# Altium footprint library WE-MAPI.PcbLib: 16 footprints
Each footprint in its own frame and in the unit in brackets; x right, y up, seen from the top. Pads: shape width x height; smd on the part's side, far side on the other; paste and mask are expansions set on the pad; w line width, h text height; cw(c..) or ccw(c..) is an arc to the next point about the centre after c.
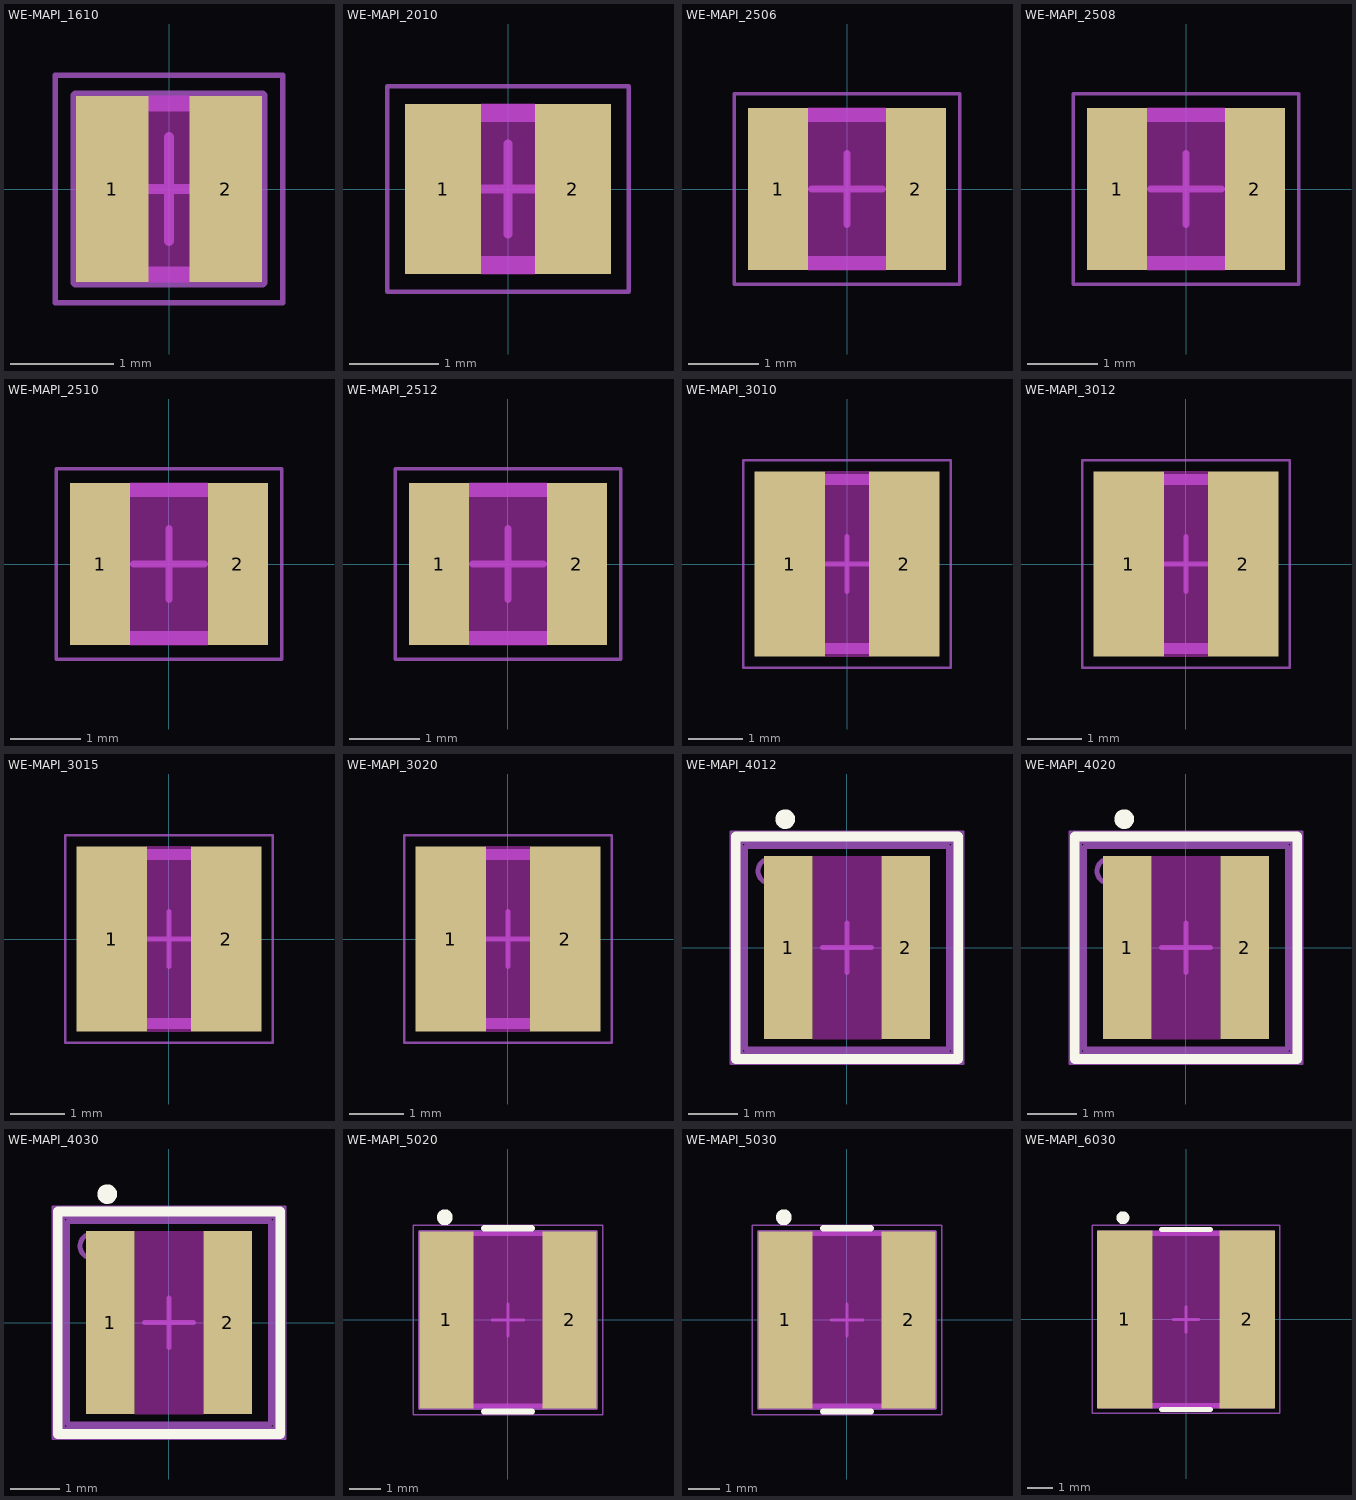
[diagram p0: the footprints below, top view; thin cyan lines are the x and y axes]

## WE-MAPI_1610 [mm] "SMT Shielded Power Inductor, body 1.60 x 1.60 mm"
height 1
pads (2):
  rect 0.7x1.8 smd: 1(-0.55,0) 2(0.55,0)
Top Layer keep-out:
  region: -0.2,0.9 0.2,0.9 0.2,-0.9 -0.2,-0.9
Top Assembly:
  lines w0.1: -0.9,-0.9 0.9,-0.9 0.9,0.9 -0.9,0.9 -0.9,-0.9
Top Designator:
  text ".Designator" at -3.647,-0.357 h1
Top 3D Body:
  lines w0.1: -0.8,-0.8 0.8,-0.8 0.8,0.8 -0.8,0.8 -0.8,-0.8
Top Courtyard:
  lines w0.05: -1.1,-1.1 -1.1,1.1 1.1,1.1 1.1,-1.1 -1.1,-1.1
Top Component Center:
  lines w0.1: -0.5,0 0.5,0 ; 0,-0.5 0,0.5
3D body "WE-IndMAPI_SSMC-16xx.stp": height 1.01, standoff 0.01, extent -0.8,-0.8 0.8,0.8

## WE-MAPI_2010 [mm] "SMT Shielded Power Inductor, body 2.00 x 1.60 mm"
height 1
pads (2):
  rect 0.85x1.9 smd: 1(-0.725,0) 2(0.725,0)
Top Layer keep-out:
  region: -0.3,0.95 0.3,0.95 0.3,-0.95 -0.3,-0.95
Top Assembly:
  lines w0.1: -1.1,-0.9 -1.1,0.9 1.1,0.9 1.1,-0.9 -1.1,-0.9
Top Designator:
  text ".Designator" at -3.647,-0.357 h1
Top 3D Body:
  lines w0.1: -1,-0.8 1,-0.8 1,0.8 -1,0.8 -1,-0.8
Top Courtyard:
  lines w0.05: -1.35,-1.15 1.35,-1.15 1.35,1.15 -1.35,1.15 -1.35,-1.15
Top Component Center:
  lines w0.1: -0.5,0 0.5,0 ; 0,-0.5 0,0.5
3D body "WE-IndMAPI_SSMC-20xx.stp": height 1.01, standoff 0.01, extent -1,-0.8 1,0.8

## WE-MAPI_2506 [mm] "SMT Shielded Power Inductor, body 2.50 x 2.00 mm"
height 0.6
pads (2):
  rect 0.85x2.3 smd: 1(-0.975,0) 2(0.975,0)
Top Layer keep-out:
  region: -0.55,1.15 0.55,1.15 0.55,-1.15 -0.55,-1.15
Top Assembly:
  lines w0.1: -1.35,-1.1 1.35,-1.1 1.35,1.1 -1.35,1.1 -1.35,-1.1
Top Designator:
  text ".Designator" at -3.647,-0.357 h1
Top 3D Body:
  lines w0.1: -1.25,-1 -1.25,1 1.25,1 1.25,-1 -1.25,-1
Top Courtyard:
  lines w0.05: -1.6,-1.35 -1.6,1.35 1.6,1.35 1.6,-1.35 -1.6,-1.35
Top Component Center:
  lines w0.1: -0.5,0 0.5,0 ; 0,-0.5 0,0.5
3D body "WE-IndMAPI_SSMC-25xx.stp": height 0.61, standoff 0.01, extent -1.25,-1 1.25,1

## WE-MAPI_2508 [mm] "SMT Shielded Power Inductor, body 2.50 x 2.00 mm"
height 0.8
pads (2):
  rect 0.85x2.3 smd: 1(-0.975,0) 2(0.975,0)
Top Layer keep-out:
  region: -0.55,1.15 0.55,1.15 0.55,-1.15 -0.55,-1.15
Top Assembly:
  lines w0.1: -1.35,-1.1 -1.35,1.1 1.35,1.1 1.35,-1.1 -1.35,-1.1
Top Designator:
  text ".Designator" at -3.647,-0.357 h1
Top 3D Body:
  lines w0.1: -1.25,-1 1.25,-1 1.25,1 -1.25,1 -1.25,-1
Top Courtyard:
  lines w0.05: -1.6,-1.35 1.6,-1.35 1.6,1.35 -1.6,1.35 -1.6,-1.35
Top Component Center:
  lines w0.1: -0.5,0 0.5,0 ; 0,-0.5 0,0.5
3D body "WE-IndMAPI_SSMC-25xx.stp": height 0.81, standoff 0.01, extent -1.25,-1 1.25,1

## WE-MAPI_2510 [mm] "SMT Shielded Power Inductor, body 2.50 x 2.00 mm"
height 1
pads (2):
  rect 0.85x2.3 smd: 1(-0.975,0) 2(0.975,0)
Top Layer keep-out:
  region: -0.55,1.15 0.55,1.15 0.55,-1.15 -0.55,-1.15
Top Assembly:
  lines w0.1: -1.35,-1.1 -1.35,1.1 1.35,1.1 1.35,-1.1 -1.35,-1.1
Top Designator:
  text ".Designator" at -3.647,-0.357 h1
Top 3D Body:
  lines w0.1: -1.25,-1 1.25,-1 1.25,1 -1.25,1 -1.25,-1
Top Courtyard:
  lines w0.05: -1.6,-1.35 1.6,-1.35 1.6,1.35 -1.6,1.35 -1.6,-1.35
Top Component Center:
  lines w0.1: -0.5,0 0.5,0 ; 0,-0.5 0,0.5
3D body "WE-IndMAPI_SSMC-25xx.stp": height 1.01, standoff 0.01, extent -1.25,-1 1.25,1

## WE-MAPI_2512 [mm] "SMT Shielded Power Inductor, body 2.50 x 2.00 mm"
height 1.2
pads (2):
  rect 0.85x2.3 smd: 1(-0.975,0) 2(0.975,0)
Top Layer keep-out:
  region: -0.55,1.15 0.55,1.15 0.55,-1.15 -0.55,-1.15
Top Assembly:
  lines w0.1: -1.35,-1.1 1.35,-1.1 1.35,1.1 -1.35,1.1 -1.35,-1.1
Top Designator:
  text ".Designator" at -3.647,-0.357 h1
Top 3D Body:
  lines w0.1: -1.25,-1 -1.25,1 1.25,1 1.25,-1 -1.25,-1
Top Courtyard:
  lines w0.05: -1.6,-1.35 -1.6,1.35 1.6,1.35 1.6,-1.35 -1.6,-1.35
Top Component Center:
  lines w0.1: -0.5,0 0.5,0 ; 0,-0.5 0,0.5
3D body "WE-IndMAPI_SSMC-25xx.stp": height 1.21, standoff 0.01, extent -1.25,-1 1.25,1

## WE-MAPI_3010 [mm] "SMT Shielded Power Inductor, body 3.00 x 3.00 mm"
height 1
pads (2):
  rect 1.3x3.4 smd: 1(-1.05,0) 2(1.05,0)
Top Layer keep-out:
  region: -0.4,1.7 0.4,1.7 0.4,-1.7 -0.4,-1.7
Top Assembly:
  lines w0.1: -1.6,-1.6 -1.6,1.6 1.6,1.6 1.6,-1.6 -1.6,-1.6
Top Designator:
  text ".Designator" at -3.647,-0.357 h1
Top 3D Body:
  lines w0.1: -1.5,-1.5 1.5,-1.5 1.5,1.5 -1.5,1.5 -1.5,-1.5
Top Courtyard:
  lines w0.05: -1.9,-1.9 1.9,-1.9 1.9,1.9 -1.9,1.9 -1.9,-1.9
Top Component Center:
  lines w0.1: -0.5,0 0.5,0 ; 0,-0.5 0,0.5
3D body "WE-IndMAPI_SSMC-30xx.stp": height 1.01, standoff 0.01, extent -1.5,-1.5 1.5,1.5

## WE-MAPI_3012 [mm] "SMT Shielded Power Inductor, body 3.00 x 3.00 mm"
height 1.2
pads (2):
  rect 1.3x3.4 smd: 1(-1.05,0) 2(1.05,0)
Top Layer keep-out:
  region: -0.4,1.7 0.4,1.7 0.4,-1.7 -0.4,-1.7
Top Assembly:
  lines w0.1: -1.6,-1.6 -1.6,1.6 1.6,1.6 1.6,-1.6 -1.6,-1.6
Top Designator:
  text ".Designator" at -3.647,-0.357 h1
Top 3D Body:
  lines w0.1: -1.5,-1.5 1.5,-1.5 1.5,1.5 -1.5,1.5 -1.5,-1.5
Top Courtyard:
  lines w0.05: -1.9,-1.9 1.9,-1.9 1.9,1.9 -1.9,1.9 -1.9,-1.9
Top Component Center:
  lines w0.1: -0.5,0 0.5,0 ; 0,-0.5 0,0.5
3D body "WE-IndMAPI_SSMC-30xx.stp": height 1.21, standoff 0.01, extent -1.5,-1.5 1.5,1.5

## WE-MAPI_3015 [mm] "SMT Shielded Power Inductor, body 3.00 x 3.00 mm"
height 1.5
pads (2):
  rect 1.3x3.4 smd: 1(-1.05,0) 2(1.05,0)
Top Layer keep-out:
  region: -0.4,1.7 0.4,1.7 0.4,-1.7 -0.4,-1.7
Top Assembly:
  lines w0.1: -1.6,-1.6 1.6,-1.6 1.6,1.6 -1.6,1.6 -1.6,-1.6
Top Designator:
  text ".Designator" at -3.647,-0.357 h1
Top 3D Body:
  lines w0.1: -1.5,-1.5 -1.5,1.5 1.5,1.5 1.5,-1.5 -1.5,-1.5
Top Courtyard:
  lines w0.05: -1.9,-1.9 -1.9,1.9 1.9,1.9 1.9,-1.9 -1.9,-1.9
Top Component Center:
  lines w0.1: -0.5,0 0.5,0 ; 0,-0.5 0,0.5
3D body "WE-IndMAPI_30xx.stp": height 1.51, standoff 0.01, extent -1.5,-1.5 1.5,1.5

## WE-MAPI_3020 [mm] "SMT Shielded Power Inductor, body 3.00 x 3.00 mm"
height 2
pads (2):
  rect 1.3x3.4 smd: 1(-1.05,0) 2(1.05,0)
Top Layer keep-out:
  region: -0.4,1.7 0.4,1.7 0.4,-1.7 -0.4,-1.7
Top Assembly:
  lines w0.1: -1.6,-1.6 1.6,-1.6 1.6,1.6 -1.6,1.6 -1.6,-1.6
Top Designator:
  text ".Designator" at -3.647,-0.357 h1
Top 3D Body:
  lines w0.1: -1.5,-1.5 -1.5,1.5 1.5,1.5 1.5,-1.5 -1.5,-1.5
Top Courtyard:
  lines w0.05: -1.9,-1.9 -1.9,1.9 1.9,1.9 1.9,-1.9 -1.9,-1.9
Top Component Center:
  lines w0.1: -0.5,0 0.5,0 ; 0,-0.5 0,0.5
3D body "WE-IndMAPI_SSMC-30xx.stp": height 2.01, standoff 0.01, extent -1.5,-1.5 1.5,1.5

## WE-MAPI_4012 [mm] "SMT Shielded Power Inductor, body 4.10 x 4.10 mm"
height 1.3
pads (2):
  rect 0.98x3.7 smd: 1(-1.185,0) 2(1.185,0)
Top Layer keep-out:
  region: -0.695,1.85 0.695,1.85 0.695,-1.85 -0.695,-1.85
Top Overlay:
  circle w0.2: c-1.25,2.6 r0.1
  lines w0.2: -2.25,-2.25 2.25,-2.25 2.25,2.25 -2.25,2.25 -2.25,-2.25
Top Assembly:
  circle w0.1: c-1.55,1.55 r0.25
  lines w0.1: -2.15,-2.15 -2.15,2.15 2.15,2.15 2.15,-2.15 -2.15,-2.15
Top Designator:
  text ".Designator" at -3.647,-0.357 h1
Top 3D Body:
  lines w0.1: -2.05,-2.05 -2.05,2.05 2.05,2.05 2.05,-2.05 -2.05,-2.05
Top Courtyard:
  lines w0.05: -2.35,-2.35 -2.35,2.35 2.35,2.35 2.35,-2.35 -2.35,-2.35
Top Component Center:
  lines w0.1: -0.5,0 0.5,0 ; 0,-0.5 0,0.5
3D body "IndMAPI_4012.stp": height 1.3, standoff 0, extent -2.05,-2.05 2.05,2.05

## WE-MAPI_4020 [mm] "SMT Shielded Power Inductor, body 4.10 x 4.10 mm"
height 2.1
pads (2):
  rect 0.98x3.7 smd: 1(-1.185,0) 2(1.185,0)
Top Layer keep-out:
  region: -0.695,1.85 0.695,1.85 0.695,-1.85 -0.695,-1.85
Top Overlay:
  circle w0.2: c-1.25,2.6 r0.1
  lines w0.2: -2.25,-2.25 -2.25,2.25 2.25,2.25 2.25,-2.25 -2.25,-2.25
Top Assembly:
  circle w0.1: c-1.55,1.55 r0.25
  lines w0.1: -2.15,-2.15 2.15,-2.15 2.15,2.15 -2.15,2.15 -2.15,-2.15
Top Designator:
  text ".Designator" at -3.647,-0.357 h1
Top 3D Body:
  lines w0.1: -2.05,-2.05 2.05,-2.05 2.05,2.05 -2.05,2.05 -2.05,-2.05
Top Courtyard:
  lines w0.05: -2.35,-2.35 2.35,-2.35 2.35,2.35 -2.35,2.35 -2.35,-2.35
Top Component Center:
  lines w0.1: -0.5,0 0.5,0 ; 0,-0.5 0,0.5
3D body "WE-IndMAPI_SSMC-4020.stp": height 2.1, standoff 0, extent -2.05,-2.05 2.05,2.05

## WE-MAPI_4030 [mm] "SMT Shielded Power Inductor, body 4.10 x 4.10 mm"
height 3.1
pads (2):
  rect 0.98x3.7 smd: 1(-1.185,0) 2(1.185,0)
Top Layer keep-out:
  region: -0.695,1.85 0.695,1.85 0.695,-1.85 -0.695,-1.85
Top Overlay:
  circle w0.2: c-1.25,2.6 r0.1
  lines w0.2: -2.25,-2.25 -2.25,2.25 2.25,2.25 2.25,-2.25 -2.25,-2.25
Top Assembly:
  circle w0.1: c-1.55,1.55 r0.25
  lines w0.1: -2.15,-2.15 2.15,-2.15 2.15,2.15 -2.15,2.15 -2.15,-2.15
Top Designator:
  text ".Designator" at -3.647,-0.357 h1
Top 3D Body:
  lines w0.1: -2.05,-2.05 2.05,-2.05 2.05,2.05 -2.05,2.05 -2.05,-2.05
Top Courtyard:
  lines w0.05: -2.35,-2.35 2.35,-2.35 2.35,2.35 -2.35,2.35 -2.35,-2.35
Top Component Center:
  lines w0.1: -0.5,0 0.5,0 ; 0,-0.5 0,0.5
3D body "IndMAPI_4030_74438357xxx.stp": height 3.1, standoff 0, extent -2.05,-2.05 2.05,2.05

## WE-MAPI_5020 [mm] "SMD Power Inductor, 2-leads, body 5.40 x 5.40 mm"
height 2.1
pads (2):
  rect 1.7x5.6 smd: 1(-1.95,0) 2(1.95,0)
Top Layer keep-out:
  region: -1.1,2.8 1.1,2.8 1.1,-2.8 -1.1,-2.8
Top Overlay:
  circle w0.25: c-2,3.25 r0.125
  lines w0.2: -0.75,-2.9 0.75,-2.9 ; -0.75,2.9 0.75,2.9
Top Assembly:
  circle w0.1: c-2,2 r0.25
  lines w0.1: -2.8,-2.8 -2.8,2.8 2.8,2.8 2.8,-2.8 -2.8,-2.8
Top Designator:
  text ".Designator" at -3.647,-0.357 h1
Top 3D Body:
  lines w0.1: -2.7,-2.7 -2.7,2.7 2.7,2.7 2.7,-2.7 -2.7,-2.7
Top Courtyard:
  lines w0.05: -3,-3 -3,3 3,3 3,-3 -3,-3
Top Component Center:
  lines w0.1: -0.5,0 0.5,0 ; 0,-0.5 0,0.5
3D body "74438366xxx_5020.stp": height 2.1, standoff 0, extent -2.7,-2.7 2.7,2.7

## WE-MAPI_5030 [mm] "SMD Power Inductor, 2-leads, body 5.40 x 5.40 mm"
height 3.1
pads (2):
  rect 1.7x5.6 smd: 1(-1.95,0) 2(1.95,0)
Top Layer keep-out:
  region: -1.1,2.8 1.1,2.8 1.1,-2.8 -1.1,-2.8
Top Overlay:
  circle w0.25: c-2,3.25 r0.125
  lines w0.2: -0.75,-2.9 0.75,-2.9 ; -0.75,2.9 0.75,2.9
Top Assembly:
  circle w0.1: c-2,2 r0.25
  lines w0.1: -2.8,-2.8 -2.8,2.8 2.8,2.8 2.8,-2.8 -2.8,-2.8
Top Designator:
  text ".Designator" at -3.647,-0.357 h1
Top 3D Body:
  lines w0.1: -2.7,-2.7 -2.7,2.7 2.7,2.7 2.7,-2.7 -2.7,-2.7
Top Courtyard:
  lines w0.05: -3,-3 -3,3 3,3 3,-3 -3,-3
Top Component Center:
  lines w0.1: -0.5,0 0.5,0 ; 0,-0.5 0,0.5
3D body "74438367xxx_5030.stp": height 3.1, standoff 0, extent -2.7,-2.7 2.7,2.7

## WE-MAPI_6030 [mm] "SMD Power Inductor, 2-leads, body 6.60 x 6.60 mm"
height 3.1
pads (2):
  rect 2.15x6.9 smd: 1(-2.375,0) 2(2.375,0)
Top Layer keep-out:
  region: -1.3,3.45 1.3,3.45 1.3,-3.45 -1.3,-3.45
Top Overlay:
  circle w0.25: c-2.45,3.95 r0.125
  lines w0.2: -0.95,-3.5 0.95,-3.5 ; -0.95,3.5 0.95,3.5
Top Assembly:
  circle w0.1: c-2.6,2.6 r0.25
  lines w0.1: -3.4,-3.4 3.4,-3.4 3.4,3.4 -3.4,3.4 -3.4,-3.4
Top Designator:
  text ".Designator" at -3.647,-0.357 h1
Top 3D Body:
  lines w0.1: -3.3,-3.3 -3.3,3.3 3.3,3.3 3.3,-3.3 -3.3,-3.3
Top Courtyard:
  lines w0.05: -3.65,-3.65 3.65,-3.65 3.65,3.65 -3.65,3.65 -3.65,-3.65
Top Component Center:
  lines w0.1: -0.5,0 0.5,0 ; 0,-0.5 0,0.5
3D body "74438377xxx_6030.stp": height 3.1, standoff 0, extent -3.3,-3.3 3.3,3.3